# Altium footprint library 智能车主板.PcbLib: 40 footprints (part 2 of 3)
Each footprint in its own frame and in the unit in brackets; x right, y up, seen from the top. Pads: shape width x height; smd on the part's side, far side on the other; paste and mask are expansions set on the pad; w line width, h text height; cw(c..) or ccw(c..) is an arc to the next point about the centre after c.
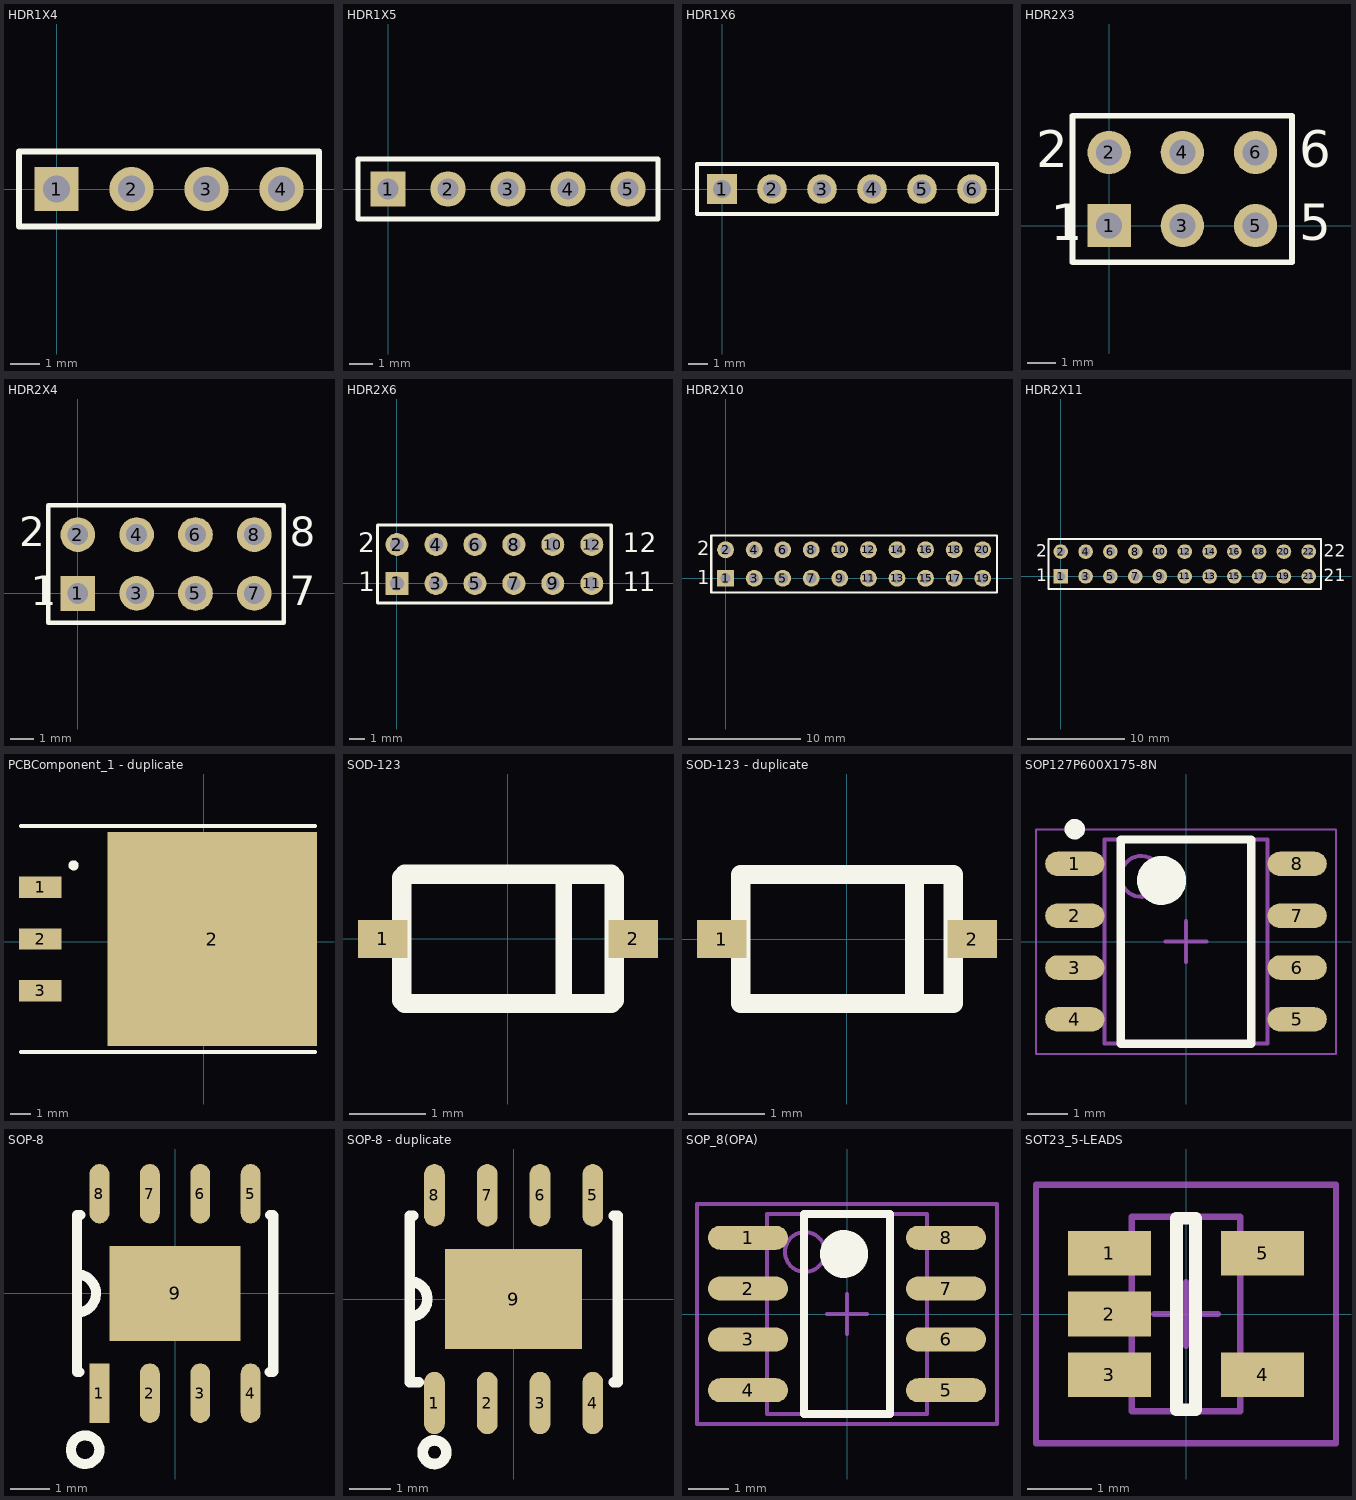
[diagram p1: the footprints below, top view; thin cyan lines are the x and y axes]

## HDR1X4 [mm] "Connector; Header; 4 Position"
height 2.5
pads (4):
  rect 1.5x1.5 hole 0.9: 1(0,0)
  round 1.5 hole 0.9: 2(2.54,0) 3(5.08,0) 4(7.62,0)
Top Overlay:
  lines w0.2: -1.27,-1.27 -1.27,1.27 8.89,1.27 8.89,-1.27 -1.27,-1.27

## HDR1X5 [mm] "Connector; Header; 5 Position"
height 2.5
pads (5):
  rect 1.5x1.5 hole 0.9: 1(0,0)
  round 1.5 hole 0.9: 2(2.54,0) 3(5.08,0) 4(7.62,0) 5(10.16,0)
Top Overlay:
  lines w0.2: -1.27,-1.27 11.43,-1.27 11.43,1.27 -1.27,1.27 -1.27,-1.27

## HDR1X6 [mm] "Connector; Header; 6 Position"
height 2.5
pads (6):
  rect 1.5x1.5 hole 0.9: 1(0,0)
  round 1.5 hole 0.9: 2(2.54,0) 3(5.08,0) 4(7.62,0) 5(10.16,0) 6(12.7,0)
Top Overlay:
  lines w0.2: -1.27,-1.27 -1.27,1.27 13.97,1.27 13.97,-1.27 -1.27,-1.27

## HDR2X3 [mm] "Connector; Header; 3x2 Position"
height 2.5
pads (6):
  rect 1.5x1.5 hole 0.9: 1(0,0)
  round 1.5 hole 0.9: 2(0,2.54) 3(2.54,0) 4(2.54,2.54) 5(5.08,0) 6(5.08,2.54)
Top Overlay:
  lines w0.2: 1.482,-1.27 6.35,-1.27 ; 6.35,-1.27 6.35,3.81 -1.27,3.81 -1.27,-1.27 6.35,-1.27
  text "6" at 6.604,2.032 h1.27
  text "5" at 6.604,-0.508 h1.27
  text "2" at -2.54,2.032 h1.27
  text "1" at -2.032,-0.508 h1.27

## HDR2X4 [mm] "Connector; Header; 4x2 Position"
height 2.5
pads (8):
  rect 1.5x1.5 hole 0.9: 1(0,0)
  round 1.5 hole 0.9: 2(0,2.54) 3(2.54,0) 4(2.54,2.54) 5(5.08,0) 6(5.08,2.54) 7(7.62,0) 8(7.62,2.54)
Top Overlay:
  lines w0.2: -1.27,-1.27 8.89,-1.27 8.89,3.81 -1.27,3.81 -1.27,-1.27
  text "2" at -2.54,2.032 h1.27
  text "1" at -2.032,-0.508 h1.27
  text "7" at 9.144,-0.508 h1.27
  text "8" at 9.144,2.032 h1.27

## HDR2X6 [mm] "Connector; Header; 6x2 Position"
height 2.5
pads (12):
  rect 1.5x1.5 hole 0.9: 1(0,0)
  round 1.5 hole 0.9: 2(0,2.54) 3(2.54,0) 4(2.54,2.54) 5(5.08,0) 6(5.08,2.54) 7(7.62,0) 8(7.62,2.54) 9(10.16,0) 10(10.16,2.54) 11(12.7,0) 12(12.7,2.54)
Top Overlay:
  lines w0.2: -1.27,-1.27 13.97,-1.27 13.97,3.81 -1.27,3.81 -1.27,-1.27
  text "12" at 14.732,2.032 h1.27
  text "1" at 15.748,-0.508 h1.27
  text "1" at 14.732,-0.508 h1.27
  text "1" at -2.54,-0.508 h1.27
  text "2" at -2.54,2.032 h1.27

## HDR2X10 [mm] "Connector; Header; 10x2 Position"
height 2.5
pads (20):
  rect 1.5x1.5 hole 0.9: 1(0,0)
  round 1.5 hole 0.9: 2(0,2.54) 3(2.54,0) 4(2.54,2.54) 5(5.08,0) 6(5.08,2.54) 7(7.62,0) 8(7.62,2.54) 9(10.16,0) 10(10.16,2.54) 11(12.7,0) 12(12.7,2.54) 13(15.24,0) 14(15.24,2.54) 15(17.78,0) 16(17.78,2.54) 17(20.32,0) 18(20.32,2.54) 19(22.86,0) 20(22.86,2.54)
Top Overlay:
  lines w0.2: -1.27,-1.27 0.635,-1.27 24.13,-1.27 24.13,3.81 0.635,3.81 -1.27,3.81 -1.27,-1.27
  text "1" at -2.54,-0.508 h1.27
  text "2" at -2.54,2.032 h1.27

## HDR2X11 [mm] "Connector; Header; 11x2 Position"
height 2.5
pads (22):
  rect 1.5x1.5 hole 0.9: 1(0,0)
  round 1.5 hole 0.9: 2(0,2.54) 3(2.54,0) 4(2.54,2.54) 5(5.08,0) 6(5.08,2.54) 7(7.62,0) 8(7.62,2.54) 9(10.16,0) 10(10.16,2.54) 11(12.7,0) 12(12.7,2.54) 13(15.24,0) 14(15.24,2.54) 15(17.78,0) 16(17.78,2.54) 17(20.32,0) 18(20.32,2.54) 19(22.86,0) 20(22.86,2.54) 21(25.4,0) 22(25.4,2.54)
Top Overlay:
  lines w0.2: -1.27,-1.27 -1.27,3.81 26.67,3.81 26.67,-1.27 -1.27,-1.27
  text "1" at -2.54,-0.508 h1.27
  text "2" at -2.54,2.032 h1.27
  text "21" at 26.924,-0.508 h1.27
  text "22" at 26.924,2.032 h1.27

## PCBComponent_1 - duplicate [mm]
pads (4):
  rect 2.1x1.05 smd: 1(-8.035,2.667) 2(-8.035,0.127) 3(-8.035,-2.413)
  rect 10.3x10.5 smd: 2(0.415,0.127)
Top Overlay:
  circle w0.25: c-6.4,3.747 r0.125
  lines w0.2: -8.985,-5.423 5.465,-5.423 ; -8.985,5.677 5.465,5.677

## SOD-123 [mm]
pads (2):
  rect 0.65x0.5 smd paste+0: 1(-1.65,0) 2(1.65,0)
Top Overlay:
  rectangle: 0.628,-0.854 0.842,0.834
  lines w0.254: -1.4,-0.808 -1.358,-0.85 -0.127,-0.85 0.254,-0.85 1.358,-0.85 1.4,-0.808 1.4,-0.381 1.4,0 1.4,0.808 1.358,0.85 0.254,0.85 -0.127,0.85 -1.358,0.85 -1.4,0.808 -1.4,0 -1.4,-0.381 -1.4,-0.808

## SOD-123 - duplicate [mm]
pads (2):
  rect 0.65x0.5 smd: 1(-1.65,0) 2(1.65,0)
Top Overlay:
  rectangle: 0.762,-0.889 1.016,0.889
  lines w0.254: 1.4,-0.635 1.4,0 ; -1.4,-0.85 1.4,-0.85 1.4,0.85 -1.4,0.85 -1.4,-0.85

## SOP127P600X175-8N [mm] "SOP, 8-Leads, Body 4.90x3.90mm, Pitch 1.27mm, IPC Medium Density"
height 1.75
pads (8):
  oval 1.45x0.6 smd: 1(-2.725,1.905) 2(-2.725,0.635) 3(-2.725,-0.635) 4(-2.725,-1.905) 5(2.725,-1.905) 6(2.725,-0.635) 7(2.725,0.635) 8(2.725,1.905)
Top Overlay:
  circle w0.25: c-2.725,2.755 r0.125
  circle w0.6: c-0.6,1.5 r0.3
  lines w0.2: -1.6,-2.5 -1.6,2.5 1.6,2.5 1.6,-2.5 -1.6,-2.5
Mechanical 13:
  circle w0.1: c-1.1,1.6 r0.5
  lines w0.1: -2,-2.5 -2,2.5 2,2.5 2,-2.5 -2,-2.5
Mechanical 15:
  lines w0.05: -3.675,-2.75 -3.675,2.75 3.675,2.75 3.675,-2.75 -3.675,-2.75
  lines w0.1: -0.5,0 0.5,0 ; 0,-0.5 0,0.5
3D body "SOP127P600X175-8N.step": height 1.75, standoff 0, extent -3,-2.5 3,2.5

## SOP-8 [mm]
pads (9):
  rect 0.5x1.5 smd paste+0: 1(-1.905,-2.512)
  oval 0.5x1.5 smd paste+0: 2(-0.635,-2.512) 3(0.635,-2.512) 4(1.905,-2.512) 5(1.905,2.513) 6(0.635,2.513) 7(-0.635,2.513) 8(-1.905,2.513)
  rect 3.3x2.4 smd paste+0: 9(0,0)
Top Overlay:
  lines w0.254: -2.475,0 -2.475,0.254 ; -2.413,-1.975 -2.47,-1.975 -2.475,-1.97 -2.475,1.97 -2.47,1.975 -2.388,1.975 ; -2.405,0.479 cw(c-2.475,0) -2.381,-0.475 ; -1.909,-3.988 cw(c-2.264,-3.937) -1.905,-3.937 ; 2.384,-1.975 2.47,-1.975 2.475,-1.97 2.475,1.97 2.47,1.975 2.394,1.975 ; 2.475,0 2.475,0.254

## SOP-8 - duplicate [mm]
pads (10):
  oval 0.5x1.2 smd: 1(-1.905,-2.5)
  oval 0.5x1.5 smd: 1(-1.905,-2.5) 2(-0.635,-2.5) 3(0.635,-2.5) 4(1.905,-2.5) 5(1.905,2.5) 6(0.635,2.5) 7(-0.635,2.5) 8(-1.905,2.5)
  rect 3.3x2.4 smd: 9(0,0)
Top Overlay:
  circle w0.254: c-1.905,-3.683 r0.284
  lines w0.254: -2.5,-0.425 ccw(c-2.5,0) -2.5,0.425 ; -2.413,2 -2.5,2 -2.5,-2 -2.286,-2 ; 2.413,-2 2.5,-2 2.5,2 2.413,2
3D body "SOP14.STEP": height 1.61, standoff 0, extent 6.064,-3.481 14.764,2.719
3D body "SOP-8.STEP": height 1.8, standoff 0, extent -2.5,-3 2.5,3

## SOP_8(OPA) [mm] "SOIC, 8-Leads, Body 5.0x4.0mm (max), Pitch 1.27mm, IPC Medium Density"
height 1.75
pads (8):
  oval 2x0.6 smd: 1(-2.475,1.905) 2(-2.475,0.635) 3(-2.475,-0.635) 4(-2.475,-1.905) 5(2.475,-1.905) 6(2.475,-0.635) 7(2.475,0.635) 8(2.475,1.905)
Top Overlay:
  circle w0.6: c-0.075,1.5 r0.3
  lines w0.2: -1.075,-2.5 1.075,-2.5 1.075,2.5 -1.075,2.5 -1.075,-2.5
Mechanical 13:
  circle w0.1: c-1.05,1.55 r0.5
  lines w0.1: -2,-2.5 2,-2.5 2,2.5 -2,2.5 -2,-2.5
Mechanical 15:
  lines w0.1: -0.5,0 0.5,0 ; 0,-0.5 0,0.5 ; -3.75,-2.75 3.75,-2.75 3.75,2.75 -3.75,2.75 -3.75,-2.75
3D body: height 1.75, standoff 0.1, extent -2,-2.5 2,2.5

## SOT23_5-LEADS [mm] "SOT23, 5-Leads, Body 3.0x3.0mm (max), Pitch 0.95mm, IPC Low Density"
height 1.45
pads (5):
  rect 1.3x0.7 smd: 1(-1.2,0.95) 2(-1.2,0) 3(-1.2,-0.95) 4(1.2,-0.95) 5(1.2,0.95)
Top Overlay:
  lines w0.2: -0.15,-1.5 -0.15,1.5 0.15,1.5 0.15,-1.5 -0.15,-1.5
Mechanical 13:
  lines w0.1: -0.85,-1.525 0.85,-1.525 0.85,1.525 -0.85,1.525 -0.85,-1.525
Mechanical 15:
  lines w0.1: -0.5,0 0.5,0 ; 0,-0.5 0,0.5 ; -2.35,-2.025 2.35,-2.025 2.35,2.025 -2.35,2.025 -2.35,-2.025
3D body: height 1.45, standoff 0.1, extent -0.85,-1.525 0.85,1.525